# EAGLE library part 2023960507 (library ic-mhm)
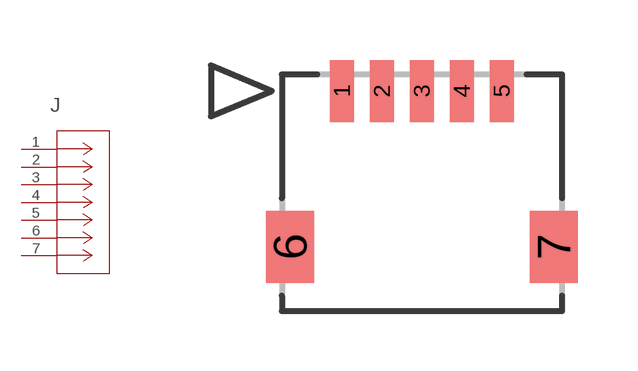
[diagram p7: symbol with the pads of CON_2023960507; footprint CON_2023960507]

Designator prefix J

## 2023960507 (COPYRIGHT: Copyright (C) 2021 Ultra Librarian. All rights reserved.; DIGI-KEY_PART_NUMBER_1: 2023960507-ND; MANUFACTURER_PART_NUMBER: 2023960507; MFR_NAME: Molex Connector Corporation)  [CON_2023960507]
1  1  pas
2  2  pas
3  3  pas
4  4  pas
5  5  pas
6  6  pas
7  7  pas

## Footprint CON_2023960507 (pad centres in mm)
smd 0.6 x 1.55: 1 0,0; 2 1,0; 3 2,0; 4 3,0; 5 4,0
smd 1.2 x 1.8: 6 -1.3,-3.9; 7 5.3,-3.9